# EAGLE library part DMG_CART (library DMG)
Game Boy connector, using the connector pulled from an original Game Boy, pocket, color, original GBA, or DS Lite. The duplicated GND pin is to accommodate the position of either the original Game Boy's pin (all inline) or the GBP/GBC/GBA variant (raised slightly). The CARTRIDGE variant isn't a connector - it's the pads that go on a board meant to go inside a Game Boy cartridge.
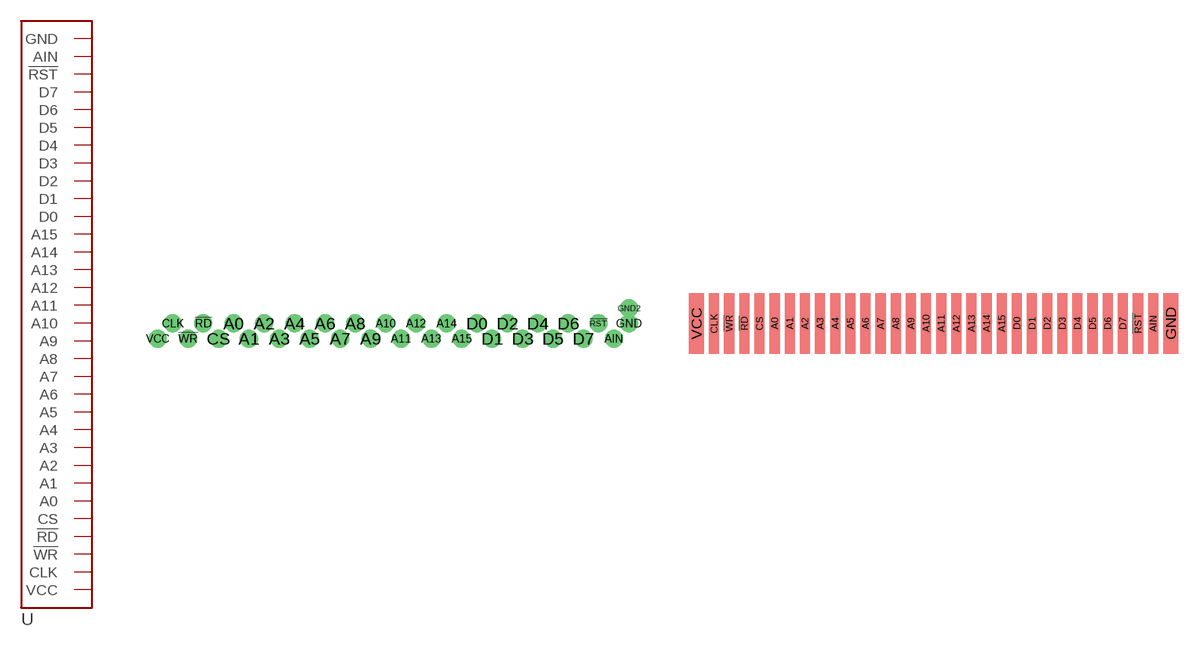
[diagram p0: symbol with the pads of DMG_CART; footprints DMG_CART, DMG_CART_PADS]

Designator prefix -

## DMG_CARTDMG/GBP/GBC/GBA  [DMG_CART]
!RD  !RD  in
!RST  !RST  in
!WR  !WR  in
A0  A0  in
A1  A1  in
A2  A2  in
A3  A3  in
A4  A4  in
A5  A5  in
A6  A6  in
A7  A7  in
A8  A8  in
A9  A9  in
A10  A10  in
A11  A11  in
A12  A12  in
A13  A13  in
A14  A14  in
A15  A15  in
AIN  AIN  in
CLK  CLK  in
CS  CS  in
D0  D0
D1  D1
D2  D2
D3  D3
D4  D4
D5  D5
D6  D6
D7  D7
GND  GND  pwr
GND2  GND  pwr
VCC  VCC  pwr

## DMG_CARTCARTRIDGE  [DMG_CART_PADS]
!RD  !RD  in
!RST  !RST  in
!WR  !WR  in
A0  A0  in
A1  A1  in
A2  A2  in
A3  A3  in
A4  A4  in
A5  A5  in
A6  A6  in
A7  A7  in
A8  A8  in
A9  A9  in
A10  A10  in
A11  A11  in
A12  A12  in
A13  A13  in
A14  A14  in
A15  A15  in
AIN  AIN  in
CLK  CLK  in
CS  CS  in
D0  D0
D1  D1
D2  D2
D3  D3
D4  D4
D5  D5
D6  D6
D7  D7
GND  GND  pwr
VCC  VCC  pwr

## DMG_CARTDSLITE  [DMG_CART_INLINE]
Pads as for DMG_CART_PADS

## Footprint DMG_CART (pad centres in mm)
Connector for DMG/pocket/color variants.
drill 1 pad 1.778: !RD 4.5,1.5; !RST 43.5,1.5; !WR 3,0; A0 7.5,1.5; A1 9,0; A2 10.5,1.5; A3 12,0; A4 13.5,1.5; A5 15,0; A6 16.5,1.5; A7 18,0; A8 19.5,1.5; A9 21,0; A10 22.5,1.5; A11 24,0; A12 25.5,1.5; A13 27,0; A14 28.5,1.5; A15 30,0; AIN 45,0; CLK 1.5,1.5; CS 6,0; D0 31.5,1.5; D1 33,0; D2 34.5,1.5; D3 36,0; D4 37.5,1.5; D5 39,0; D6 40.5,1.5; D7 42,0; GND 46.5,1.5; GND2 46.5,3; VCC 0,0

## Footprint DMG_CART_PADS (pad centres in mm)
smd 1 x 6: !RD 5.5,-3; !RST 44.5,-3; !WR 4,-3; A0 8.5,-3; A1 10,-3; A2 11.5,-3; A3 13,-3; A4 14.5,-3; A5 16,-3; A6 17.5,-3; A7 19,-3; A8 20.5,-3; A9 22,-3; A10 23.5,-3; A11 25,-3; A12 26.5,-3; A13 28,-3; A14 29.5,-3; A15 31,-3; AIN 46,-3; CLK 2.5,-3; CS 7,-3; D0 32.5,-3; D1 34,-3; D2 35.5,-3; D3 37,-3; D4 38.5,-3; D5 40,-3; D6 41.5,-3; D7 43,-3
smd 1.5 x 6: GND 47.75,-3; VCC 0.75,-3

## Footprint DMG_CART_INLINE (pad centres in mm)
drill 0.8 pad 1 offset: !RD 4.49,0; !RST 43.49,0; !WR 2.99,0; A0 7.49,0; A1 8.99,0; A2 10.49,0; A3 11.99,0; A4 13.49,0; A5 14.99,0; A6 16.49,0; A7 17.99,0; A8 19.49,0; A9 20.99,0; A10 22.49,0; A11 23.99,0; A12 25.49,0; A13 26.99,0; A14 28.49,0; A15 29.99,0; AIN 44.99,0; CLK 1.49,0; CS 5.99,0; D0 31.49,0; D1 32.99,0; D2 34.49,0; D3 35.99,0; D4 37.49,0; D5 38.99,0; D6 40.49,0; D7 41.99,0; GND 46.49,0; VCC 0,0